# EAGLE library part PCF8523 (library CalvEngIO-Clocks)
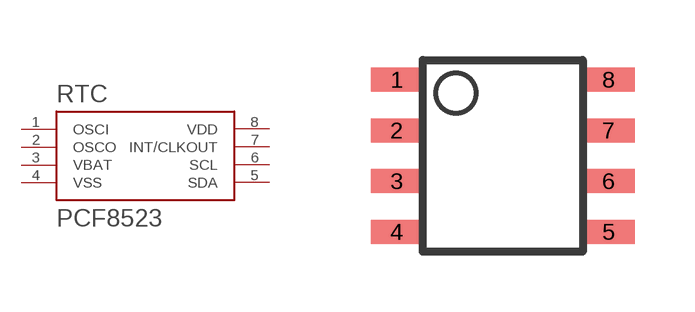
[diagram p0: symbol with the pads of SO8; footprint SO8]

Designator prefix RTC

## PCF8523  [SO8]
1  OSCI
2  OSCO
3  VBAT
4  VSS
5  SDA
6  SCL
7  INT/CLKOUT
8  VDD

## Footprint SO8 (pad centres in mm)
8-Lead Small Outline IC (SO-8) Source: http://www.analog.com/UploadedFiles/Data_Sheets/703465986AD8611_2_0.pdf
smd 1.3 x 0.6: 1 -2.65,1.905; 2 -2.65,0.635; 3 -2.65,-0.635; 4 -2.65,-1.905; 5 2.65,-1.905; 6 2.65,-0.635; 7 2.65,0.635; 8 2.65,1.905